# Altium schematic symbol library jonnew.SchLib: 2 symbols
Pins are listed as number, name and electrical type; pins without a type are passive.

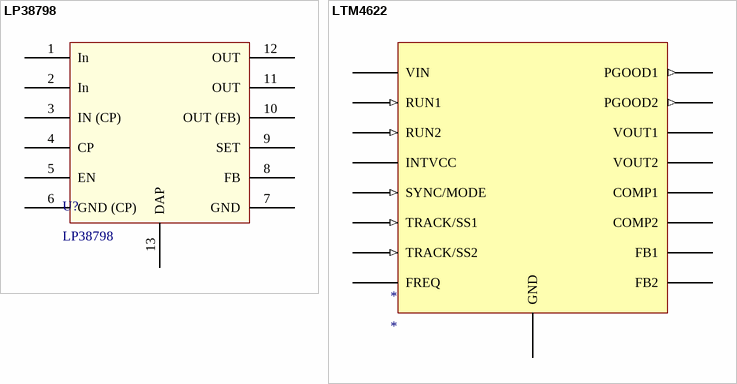
[diagram p0: symbols LP38798 to LTM4622]

## LP38798
designator U?
Low Noise Positive LDO
footprint DFN12
pins: 1 In (power) "VIN", 2 In (power) "VIN", 3 IN (CP) (power) "VIN", 4 CP "VIN", 5 EN, 6 GND (CP), 7 GND (power), 8 FB, 9 SET, 10 OUT (FB), 11 OUT (power), 12 OUT (power), 13 DAP

## LTM4622
designator *
footprint LGA5x5 (LGA Package  25-Lead (6.25mm × 6.25mm × 1.82mm))
pins: A1 VOUT2 (power), A2 VIN (power), A3 TRACK/SS2 (in), A4 FB2, A5 COMP2, B1 VOUT2, B2 RUN2 (in), B3 VIN, B4 PGOOD2 (out), B5 GND, C1 GND (power), C2 GND, C3 INTVCC, C4 FREQ, C5 SYNC/MODE (in), D1 VOUT1 (power), D2 RUN1 (in), D3 VIN, D4 PGOOD1 (out), D5 GND, E1 VOUT1, E2 VIN, E4 FB1, E5 TRACK/SS1 (in), E5 COMP1